# Altium integrated library Analog Devices RF IF Direct Digital Synthesis.IntLib: 76 symbols (part 1 of 9)
Pins are listed as number, name and electrical type; pins without a type are passive.

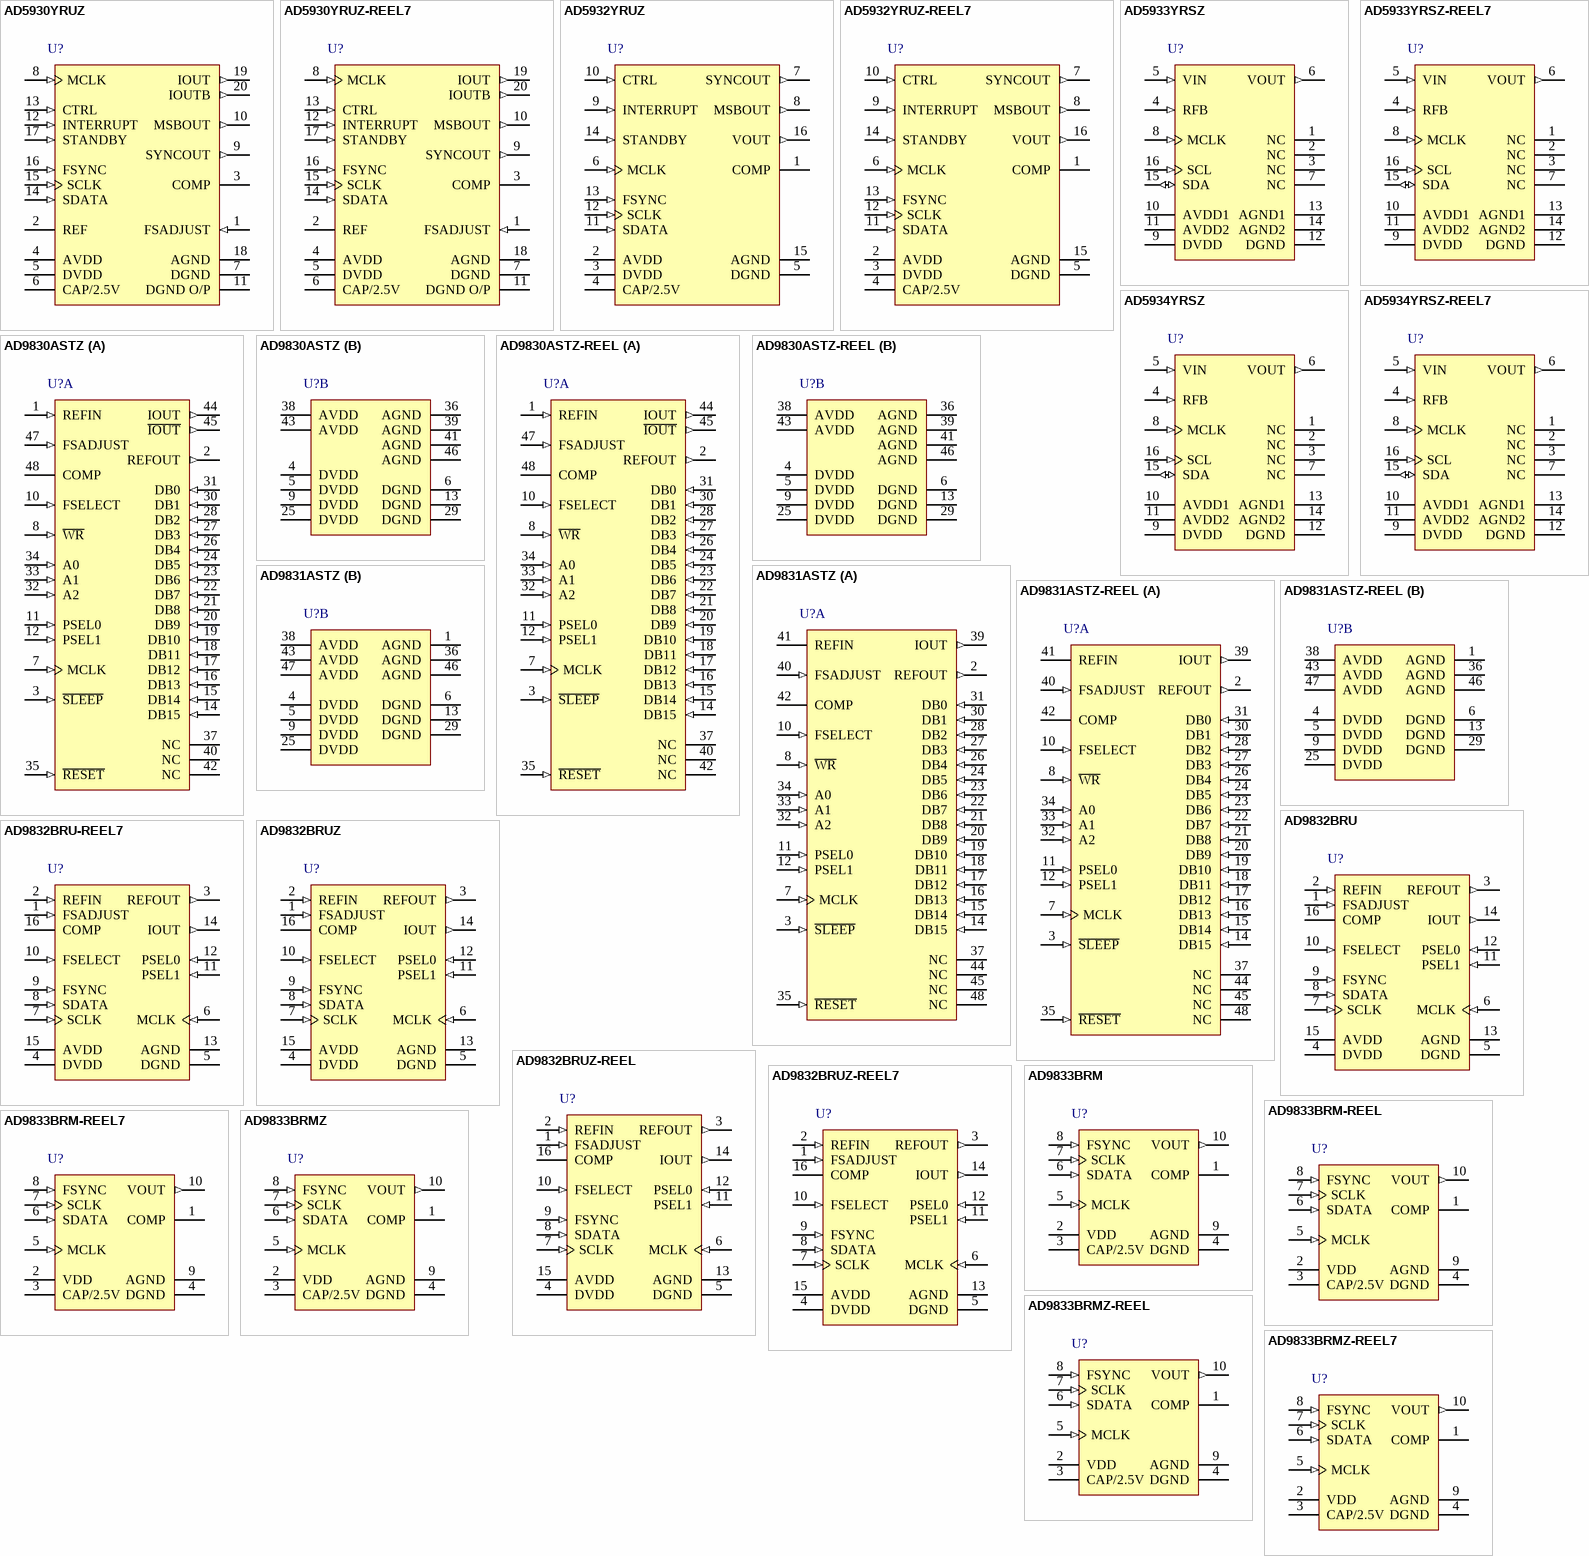
[diagram p0: symbols AD5930YRUZ to AD9833BRMZ-REEL7]

## AD5930YRUZ
designator U?
Programmable Frequency Sweep and Output Burst Waveform Generator, 10-Bit, Serial, RU-20, 75 Tube, Pb-Free; Master fclk: 50MHz; Resolution (Bits): 10bit; Tuning Word Width (bits): 24bit; REFCLK Multiplier: No; Compliance Range (V): 800mV; FS Iout (mA nom): 3.1mA; I Supply total (max): 8mA; DatasheetVersion: Rev. 0; PackageVersion: 2000; PackageReference: RU-20; PackageDescription: 20-Lead Thin Shrink Small Outline Package [TSSOP]; I/O Interface: Serial; Code_JEDEC: MO-153AC; ComponentLink1Description: Manufacturer URL; ComponentLink1URL: www.analog.com; ComponentLink2Description: Datasheet; ComponentLink2URL: http://www.analog.com/static/imported-files/data_sheets/AD5930.pdf; ComponentLink3Description: Package Specification; ComponentLink3URL: http://www.analog.com/static/imported-files/packages/364515793657813558433715854054607941441RU20.pdf
footprint ADI-RU-20_N (TSOP, 20-Leads, Body 6.5x4.4mm, Pitch 0.65mm, IPC Medium Density)
footprint ADI-RU-20_L (TSOP, 20-Leads, Body 6.5x4.4mm, Pitch 0.65mm, IPC High Density)
footprint ADI-RU-20_M (TSOP, 20-Leads, Body 6.5x4.4mm, Pitch 0.65mm, IPC Low Density)
pins: 1 FSADJUST (in) "Full-Scale Adjust Control. A resistor (RSET) must be connected externally between this pin and AGND. This determines the magnitude of the full-scale DAC current. [see datasheet]", 2 REF (power) "Voltage Reference. This pin can be an input or an output. The AD5930 has an internal 1.18 V reference, which  is made available at this pin. [see datasheet]", 3 COMP "DAC Bias Pin. This pin is used for decoupling the DAC bias voltage to AVDD.", 4 AVDD (power) "Positive Power Supply for the Analog Section. AVDD can have a value from +2.3 V to +5.5 V. A 0.1 uF decoupling capacitor should be connected between AVDD and AGND.", 5 DVDD (power) "Positive Power Supply for the Digital Section. DVDD can have a value from +2.3 V to +5.5 V. A 0.1 uF decoupling capacitor should be connected between DVDD and DGND.", 6 CAP/2.5V (power) "Digital Circuitry. Operates from a 2.5 V power supply. This 2.5 V is generated from DVDD using an on-boardregulator. The regulator requires a decoupling capacitor of typically 100 nF, which is connected from CAP/2.5V  to DGND. [see datasheet]", 7 DGND (power) "Ground for all Digital Circuitry. This excludes digital output buffers.", 8 MCLK (in) "Digital Clock Input. DDS output frequencies are expressed as a binary fraction of the frequency of MCLK.  The output frequency accuracy and phase noise are determined by this clock.", 9 SYNCOUT (out) "Digital Output for Sweep Status Information. User selectable for end of sweep (EOS) or frequency increments through the control register (SYNCOP bit). [see datasheet]", 10 MSBOUT (out) "Digital Output. The inverted MSB of the DAC data is available at this pin. This output pin must be enabled bysetting bit MSBOUTEN in the control register to 1.", 11 DGND O/P (power) "Separate DGND Connection for Digital Output Buffers. Connect to DGND", 12 INTERRUPT (in) "Digital Input. This pins acts as an interrupt during a frequency sweep. A low to high transition is sampled by the internal MCLK, which resets internal state machines. [see datasheet]", 13 CTRL (in) "Digital Input. Triple function pin for initialization, start, and external frequency increments. A low-to-high transition,sampled by the internal MCLK, is used to initialize and start internal state machines, which then execute the preprogrammed frequenc", 14 SDATA (in) "Serial Data Input. The 16-bit serial data-word is applied to this input with the register address first followed by the MSB to LSB of the data.", 15 SCLK (in) "Serial Clock Input. Data is clocked into the AD5930 on each falling SCLK edge.", 16 FSYNC (in) "Active Low Control Input.", 17 STANDBY (in) "Active High Digital Input. When this pin is high, the internal MCLK is disabled, and the reference DAC and regulator are powered down. [see datasheet]", 18 AGND (power) "Ground for all Analog Circuitry", 19 IOUT (out) "Current Output. This is a high impedance current source output. A load resistor of nominally 200 ? should be connected between IOUT and AGND. [see datasheet]", 20 IOUTB (out) "Current Output. IOUTB is the compliment of IOUT. This pin should preferably be tied through an external load resistor of 200 ? to AGND, but can be tied directly to AGND. [see datasheet]"

## AD5930YRUZ-REEL7
designator U?
Programmable Frequency Sweep and Output Burst Waveform Generator, 10-Bit, Serial, RU-20, 1000 Reel, Pb-Free; Master fclk: 50MHz; Resolution (Bits): 10bit; Tuning Word Width (bits): 24bit; REFCLK Multiplier: No; Compliance Range (V): 800mV; FS Iout (mA nom): 3.1mA; I Supply total (max): 8mA; DatasheetVersion: Rev. 0; PackageVersion: 2000; PackageReference: RU-20; PackageDescription: 20-Lead Thin Shrink Small Outline Package [TSSOP]; I/O Interface: Serial; Code_JEDEC: MO-153AC; ComponentLink1Description: Manufacturer URL; ComponentLink1URL: www.analog.com; ComponentLink2Description: Datasheet; ComponentLink2URL: http://www.analog.com/static/imported-files/data_sheets/AD5930.pdf; ComponentLink3Description: Package Specification; ComponentLink3URL: http://www.analog.com/static/imported-files/packages/364515793657813558433715854054607941441RU20.pdf
footprint ADI-RU-20_N (TSOP, 20-Leads, Body 6.5x4.4mm, Pitch 0.65mm, IPC Medium Density)
footprint ADI-RU-20_L (TSOP, 20-Leads, Body 6.5x4.4mm, Pitch 0.65mm, IPC High Density)
footprint ADI-RU-20_M (TSOP, 20-Leads, Body 6.5x4.4mm, Pitch 0.65mm, IPC Low Density)
pins: 1 FSADJUST (in) "Full-Scale Adjust Control. A resistor (RSET) must be connected externally between this pin and AGND. This determines the magnitude of the full-scale DAC current. [see datasheet]", 2 REF (power) "Voltage Reference. This pin can be an input or an output. The AD5930 has an internal 1.18 V reference, which  is made available at this pin. [see datasheet]", 3 COMP "DAC Bias Pin. This pin is used for decoupling the DAC bias voltage to AVDD.", 4 AVDD (power) "Positive Power Supply for the Analog Section. AVDD can have a value from +2.3 V to +5.5 V. A 0.1 uF decoupling capacitor should be connected between AVDD and AGND.", 5 DVDD (power) "Positive Power Supply for the Digital Section. DVDD can have a value from +2.3 V to +5.5 V. A 0.1 uF decoupling capacitor should be connected between DVDD and DGND.", 6 CAP/2.5V (power) "Digital Circuitry. Operates from a 2.5 V power supply. This 2.5 V is generated from DVDD using an on-boardregulator. The regulator requires a decoupling capacitor of typically 100 nF, which is connected from CAP/2.5V  to DGND. [see datasheet]", 7 DGND (power) "Ground for all Digital Circuitry. This excludes digital output buffers.", 8 MCLK (in) "Digital Clock Input. DDS output frequencies are expressed as a binary fraction of the frequency of MCLK.  The output frequency accuracy and phase noise are determined by this clock.", 9 SYNCOUT (out) "Digital Output for Sweep Status Information. User selectable for end of sweep (EOS) or frequency increments through the control register (SYNCOP bit). [see datasheet]", 10 MSBOUT (out) "Digital Output. The inverted MSB of the DAC data is available at this pin. This output pin must be enabled bysetting bit MSBOUTEN in the control register to 1.", 11 DGND O/P (power) "Separate DGND Connection for Digital Output Buffers. Connect to DGND", 12 INTERRUPT (in) "Digital Input. This pins acts as an interrupt during a frequency sweep. A low to high transition is sampled by the internal MCLK, which resets internal state machines. [see datasheet]", 13 CTRL (in) "Digital Input. Triple function pin for initialization, start, and external frequency increments. A low-to-high transition,sampled by the internal MCLK, is used to initialize and start internal state machines, which then execute the preprogrammed frequenc", 14 SDATA (in) "Serial Data Input. The 16-bit serial data-word is applied to this input with the register address first followed by the MSB to LSB of the data.", 15 SCLK (in) "Serial Clock Input. Data is clocked into the AD5930 on each falling SCLK edge.", 16 FSYNC (in) "Active Low Control Input.", 17 STANDBY (in) "Active High Digital Input. When this pin is high, the internal MCLK is disabled, and the reference DAC and regulator are powered down. [see datasheet]", 18 AGND (power) "Ground for all Analog Circuitry", 19 IOUT (out) "Current Output. This is a high impedance current source output. A load resistor of nominally 200 ? should be connected between IOUT and AGND. [see datasheet]", 20 IOUTB (out) "Current Output. IOUTB is the compliment of IOUT. This pin should preferably be tied through an external load resistor of 200 ? to AGND, but can be tied directly to AGND. [see datasheet]"

## AD5932YRUZ
designator U?
Programmable Frequency Scan Waveform Generator, 10-Bit, Serial, RU-16, 96 Tube, Pb-Free; Master fclk: 50MHz; Resolution (Bits): 10bit; Tuning Word Width (bits): 24bit; REFCLK Multiplier: Yes; I Supply total (max): 8mA; DatasheetVersion: Rev. 0; PackageVersion: Nov-2002; PackageReference: RU-16; PackageDescription: 16-Lead Thin Shrink Small Outline Package [TSSOP]; I/O Interface: Serial; Code_JEDEC: MO-153AB; ComponentLink1Description: Manufacturer URL; ComponentLink1URL: www.analog.com; ComponentLink2Description: Datasheet; ComponentLink2URL: http://www.analog.com/static/imported-files/data_sheets/AD5932.pdf; ComponentLink3Description: Package Specification; ComponentLink3URL: http://www.analog.com/static/imported-files/packages/36244347913743854010197452789RU16.pdf
footprint ADI-RU-16_N (TSOP, 16-Leads, Body 5x4.4mm, Pitch 0.65mm, IPC Medium Density)
footprint ADI-RU-16_L (TSOP, 16-Leads, Body 5x4.4mm, Pitch 0.65mm, IPC High Density)
footprint ADI-RU-16_M (TSOP, 16-Leads, Body 5x4.4mm, Pitch 0.65mm, IPC Low Density)
pins: 1 COMP "DAC Bias Pin. This pin is used for decoupling the DAC bias voltage to AVDD.", 2 AVDD (power) "Positive Power Supply for the Analog Section. AVDD can have a value from 2.3 V to 5.5 V. A 0.1 uF decoupling capacitor should be connected between AVDD and AGND.", 3 DVDD (power) "Positive Power Supply for the Digital Section. DVDD can have a value from 2.3 V to 5.5 V. A 0.1 uF decoupling capacitor should be connected between DVDD and DGND.", 4 CAP/2.5V (power) "Digital Circuitry. Operates from a 2.5 V power supply. This 2.5 V is generated from DVDD using an on-board regulator. The regulator requires a decoupling capacitor of typically 100 nF, which is connected fromCAP/2.5V  to DGND. [see datasheet]", 5 DGND (power) "Ground for All Digital Circuitry.", 6 MCLK (in) "Digital Clock Input. DDS output frequencies are expressed as a binary fraction of the frequency of MCLK.  The output frequency accuracy and phase noise are determined by this clock.", 7 SYNCOUT (out) "Digital Output for Scan Status Information. User-selectable for end of scan (EOS) or frequency increments through the control register (SYNCOP bit). [see datasheet]", 8 MSBOUT (out) "Digital Output. The inverted MSB of the DAC data is available at this pin. This output pin must be enabled by setting the MSBOUTEN bit in the control register to 1.", 9 INTERRUPT (in) "Digital Input. This pin acts as an interrupt during a frequency scan. A low-to-high transition is sampled by the internal MCLK, which resets internal state machines. [see datasheet]", 10 CTRL (in) "Digital Input. Triple function pin for initialization, start, and external frequency increments. A low-to-high transition, sampled by the internal MCLK, is used to initialize and start internal state machines, which then execute the preprogrammed frequen", 11 SDATA (in) "Serial Data Input. The 16-bit serial data-word is applied to this input with the register address first, followed by  the MSB to LSBs of the data.", 12 SCLK (in) "Serial Clock Input. Data is clocked into the AD5932 on each falling SCLK edge.", 13 FSYNC (in) "Active Low Control Input.", 14 STANDBY (in) "Active High Digital Input. When this pin is high, the internal MCLK is disabled, and the reference DAC and regulator are powered down. [see datasheet]", 15 AGND (power) "Ground for All Analog Circuitry.", 16 VOUT (out) "Voltage Output. The analog outputs from the AD5932 are available here. An external resistive load is not required, because the device has a 200  ohm resistor on board. [see datasheet]"

## AD5932YRUZ-REEL7
designator U?
Programmable Frequency Scan Waveform Generator, 10-Bit, Serial, RU-16, 1000 Reel, Pb-Free; Master fclk: 50MHz; Resolution (Bits): 10bit; Tuning Word Width (bits): 24bit; REFCLK Multiplier: Yes; I Supply total (max): 8mA; DatasheetVersion: Rev. 0; PackageVersion: Nov-2002; PackageReference: RU-16; PackageDescription: 16-Lead Thin Shrink Small Outline Package [TSSOP]; I/O Interface: Serial; Code_JEDEC: MO-153AB; ComponentLink1Description: Manufacturer URL; ComponentLink1URL: www.analog.com; ComponentLink2Description: Datasheet; ComponentLink2URL: http://www.analog.com/static/imported-files/data_sheets/AD5932.pdf; ComponentLink3Description: Package Specification; ComponentLink3URL: http://www.analog.com/static/imported-files/packages/36244347913743854010197452789RU16.pdf
footprint ADI-RU-16_N (TSOP, 16-Leads, Body 5x4.4mm, Pitch 0.65mm, IPC Medium Density)
footprint ADI-RU-16_L (TSOP, 16-Leads, Body 5x4.4mm, Pitch 0.65mm, IPC High Density)
footprint ADI-RU-16_M (TSOP, 16-Leads, Body 5x4.4mm, Pitch 0.65mm, IPC Low Density)
pins: 1 COMP "DAC Bias Pin. This pin is used for decoupling the DAC bias voltage to AVDD.", 2 AVDD (power) "Positive Power Supply for the Analog Section. AVDD can have a value from 2.3 V to 5.5 V. A 0.1 uF decoupling capacitor should be connected between AVDD and AGND.", 3 DVDD (power) "Positive Power Supply for the Digital Section. DVDD can have a value from 2.3 V to 5.5 V. A 0.1 uF decoupling capacitor should be connected between DVDD and DGND.", 4 CAP/2.5V (power) "Digital Circuitry. Operates from a 2.5 V power supply. This 2.5 V is generated from DVDD using an on-board regulator. The regulator requires a decoupling capacitor of typically 100 nF, which is connected fromCAP/2.5V  to DGND. [see datasheet]", 5 DGND (power) "Ground for All Digital Circuitry.", 6 MCLK (in) "Digital Clock Input. DDS output frequencies are expressed as a binary fraction of the frequency of MCLK.  The output frequency accuracy and phase noise are determined by this clock.", 7 SYNCOUT (out) "Digital Output for Scan Status Information. User-selectable for end of scan (EOS) or frequency increments through the control register (SYNCOP bit). [see datasheet]", 8 MSBOUT (out) "Digital Output. The inverted MSB of the DAC data is available at this pin. This output pin must be enabled by setting the MSBOUTEN bit in the control register to 1.", 9 INTERRUPT (in) "Digital Input. This pin acts as an interrupt during a frequency scan. A low-to-high transition is sampled by the internal MCLK, which resets internal state machines. [see datasheet]", 10 CTRL (in) "Digital Input. Triple function pin for initialization, start, and external frequency increments. A low-to-high transition, sampled by the internal MCLK, is used to initialize and start internal state machines, which then execute the preprogrammed frequen", 11 SDATA (in) "Serial Data Input. The 16-bit serial data-word is applied to this input with the register address first, followed by  the MSB to LSBs of the data.", 12 SCLK (in) "Serial Clock Input. Data is clocked into the AD5932 on each falling SCLK edge.", 13 FSYNC (in) "Active Low Control Input.", 14 STANDBY (in) "Active High Digital Input. When this pin is high, the internal MCLK is disabled, and the reference DAC and regulator are powered down. [see datasheet]", 15 AGND (power) "Ground for All Analog Circuitry.", 16 VOUT (out) "Voltage Output. The analog outputs from the AD5932 are available here. An external resistive load is not required, because the device has a 200  ohm resistor on board. [see datasheet]"

## AD5933YRSZ
designator U?
1 MSPS, 12-Bit Impedance Converter, Network Analyzer, Serial, RS-16, 77 Tube, Pb-Free; Master fclk: 16.776MHz; Resolution (Bits): 12bit; Tuning Word Width (bits): 27bit; I Supply total (max): 15mA; DatasheetVersion: Rev. D; PackageVersion: 3/17/2005; PackageReference: RS-16; PackageDescription: 16-Lead Shrink Small Outline Package [SSOP]; I/O Interface: Serial; Code_JEDEC: MO-150-AC; ComponentLink1Description: Manufacturer URL; ComponentLink1URL: www.analog.com; ComponentLink2Description: Datasheet; ComponentLink2URL: http://www.analog.com/static/imported-files/data_sheets/AD5933.pdf; ComponentLink3Description: Package Specification; ComponentLink3URL: http://www.analog.com/static/imported-files/packages/31572257652246RS_16.pdf
footprint ADI-RS-16_N (SOP, 16-Leads, Body 6.2x5.3mm, Pitch 0.65mm, IPC Medium Density)
footprint ADI-RS-16_L (SOP, 16-Leads, Body 6.2x5.3mm, Pitch 0.65mm, IPC High Density)
footprint ADI-RS-16_M (SOP, 16-Leads, Body 6.2x5.3mm, Pitch 0.65mm, IPC Low Density)
pins: 1 NC "No Connect.", 2 NC "No Connect.", 3 NC "No Connect.", 4 RFB (in) "External Feedback Resistor. Connected from Pin 4 to Pin 5 and used to set the gain of the current-to-voltage amplifier on the receive side.", 5 VIN (in) "Input to Receive Transimpedance Amplifier. Presents a virtual earth voltage of VDD/2.", 6 VOUT (out) "Excitation Voltage Signal Output.", 7 NC "No Connect.", 8 MCLK (in) "The master clock for the system is supplied by the user.", 9 DVDD (power) "Digital Supply Voltage.", 10 AVDD1 (power) "Analog Supply Voltage 1.", 11 AVDD2 (power) "Analog Supply Voltage 2.", 12 DGND (power) "Digital Ground.", 13 AGND1 (power) "Analog Ground 1.", 14 AGND2 (power) "Analog Ground 2.", 15 SDA (io) "I2C Data Input. Open-drain pins requiring 10 k ohm pull-up resistors to VDD.", 16 SCL (in) "I2C Clock Input. Open-drain pins requiring 10 k ohm pull-up resistors to VDD."

## AD5933YRSZ-REEL7
designator U?
1 MSPS, 12-Bit Impedance Converter, Network Analyzer, Serial, RS-16, 500 Reel, Pb-Free; Master fclk: 16.776MHz; Resolution (Bits): 12bit; Tuning Word Width (bits): 27bit; I Supply total (max): 15mA; DatasheetVersion: Rev. D; PackageVersion: 3/17/2005; PackageReference: RS-16; PackageDescription: 16-Lead Shrink Small Outline Package [SSOP]; I/O Interface: Serial; Code_JEDEC: MO-150-AC; ComponentLink1Description: Manufacturer URL; ComponentLink1URL: www.analog.com; ComponentLink2Description: Datasheet; ComponentLink2URL: http://www.analog.com/static/imported-files/data_sheets/AD5933.pdf; ComponentLink3Description: Package Specification; ComponentLink3URL: http://www.analog.com/static/imported-files/packages/31572257652246RS_16.pdf
footprint ADI-RS-16_N (SOP, 16-Leads, Body 6.2x5.3mm, Pitch 0.65mm, IPC Medium Density)
footprint ADI-RS-16_L (SOP, 16-Leads, Body 6.2x5.3mm, Pitch 0.65mm, IPC High Density)
footprint ADI-RS-16_M (SOP, 16-Leads, Body 6.2x5.3mm, Pitch 0.65mm, IPC Low Density)
pins: 1 NC "No Connect.", 2 NC "No Connect.", 3 NC "No Connect.", 4 RFB (in) "External Feedback Resistor. Connected from Pin 4 to Pin 5 and used to set the gain of the current-to-voltage amplifier on the receive side.", 5 VIN (in) "Input to Receive Transimpedance Amplifier. Presents a virtual earth voltage of VDD/2.", 6 VOUT (out) "Excitation Voltage Signal Output.", 7 NC "No Connect.", 8 MCLK (in) "The master clock for the system is supplied by the user.", 9 DVDD (power) "Digital Supply Voltage.", 10 AVDD1 (power) "Analog Supply Voltage 1.", 11 AVDD2 (power) "Analog Supply Voltage 2.", 12 DGND (power) "Digital Ground.", 13 AGND1 (power) "Analog Ground 1.", 14 AGND2 (power) "Analog Ground 2.", 15 SDA (io) "I2C Data Input. Open-drain pins requiring 10 k ohm pull-up resistors to VDD.", 16 SCL (in) "I2C Clock Input. Open-drain pins requiring 10 k ohm pull-up resistors to VDD."

## AD5934YRSZ
designator U?
250 kSPS, 12-Bit Impedance Converter, Network Analyzer, Serial, RS-16, 77 Tube, Pb-Free; Master fclk: 16.776MHz; Resolution (Bits): 12bit; Tuning Word Width (bits): 27bit; I Supply total (max): 1mA; DatasheetVersion: Rev. A; PackageVersion: 3/17/2005; PackageReference: RS-16; PackageDescription: 16-Lead Shrink Small Outline Package [SSOP]; I/O Interface: Serial; Code_JEDEC: MO-150-AC; ComponentLink1Description: Manufacturer URL; ComponentLink1URL: www.analog.com; ComponentLink2Description: Datasheet; ComponentLink2URL: http://www.analog.com/static/imported-files/data_sheets/AD5934.pdf; ComponentLink3Description: Package Specification; ComponentLink3URL: http://www.analog.com/static/imported-files/packages/31572257652246RS_16.pdf
footprint ADI-RS-16_N (SOP, 16-Leads, Body 6.2x5.3mm, Pitch 0.65mm, IPC Medium Density)
footprint ADI-RS-16_L (SOP, 16-Leads, Body 6.2x5.3mm, Pitch 0.65mm, IPC High Density)
footprint ADI-RS-16_M (SOP, 16-Leads, Body 6.2x5.3mm, Pitch 0.65mm, IPC Low Density)
pins: 1 NC "No Connect.", 2 NC "No Connect.", 3 NC "No Connect.", 4 RFB (in) "External Feedback Resistor. Connect from Pin 4 to Pin 5. This pin sets the gain of the current-to-voltage amplifier on the receive side.", 5 VIN (in) "Input to Receive Transimpedance Amplifier. VIN presents a virtual earth voltage of VDD/2.", 6 VOUT (out) "Excitation Voltage Signal Output.", 7 NC "No Connect.", 8 MCLK (in) "The master clock for the system is supplied by the user.", 9 DVDD (power) "Digital Supply Voltage.", 10 AVDD1 (power) "Analog Supply Voltage 1.", 11 AVDD2 (power) "Analog Supply Voltage 2.", 12 DGND (power) "Digital Ground.", 13 AGND1 (power) "Analog Ground 1.", 14 AGND2 (power) "Analog Ground 2.", 15 SDA (io) "I2C Data Input.", 16 SCL (in) "I2C Clock Input."

## AD5934YRSZ-REEL7
designator U?
250 kSPS, 12-Bit Impedance Converter, Network Analyzer, Serial, RS-16, 500 Reel, Pb-Free; Master fclk: 16.776MHz; Resolution (Bits): 12bit; Tuning Word Width (bits): 27bit; I Supply total (max): 1mA; DatasheetVersion: Rev. A; PackageVersion: 3/17/2005; PackageReference: RS-16; PackageDescription: 16-Lead Shrink Small Outline Package [SSOP]; I/O Interface: Serial; Code_JEDEC: MO-150-AC; ComponentLink1Description: Manufacturer URL; ComponentLink1URL: www.analog.com; ComponentLink2Description: Datasheet; ComponentLink2URL: http://www.analog.com/static/imported-files/data_sheets/AD5934.pdf; ComponentLink3Description: Package Specification; ComponentLink3URL: http://www.analog.com/static/imported-files/packages/31572257652246RS_16.pdf
footprint ADI-RS-16_N (SOP, 16-Leads, Body 6.2x5.3mm, Pitch 0.65mm, IPC Medium Density)
footprint ADI-RS-16_L (SOP, 16-Leads, Body 6.2x5.3mm, Pitch 0.65mm, IPC High Density)
footprint ADI-RS-16_M (SOP, 16-Leads, Body 6.2x5.3mm, Pitch 0.65mm, IPC Low Density)
pins: 1 NC "No Connect.", 2 NC "No Connect.", 3 NC "No Connect.", 4 RFB (in) "External Feedback Resistor. Connect from Pin 4 to Pin 5. This pin sets the gain of the current-to-voltage amplifier on the receive side.", 5 VIN (in) "Input to Receive Transimpedance Amplifier. VIN presents a virtual earth voltage of VDD/2.", 6 VOUT (out) "Excitation Voltage Signal Output.", 7 NC "No Connect.", 8 MCLK (in) "The master clock for the system is supplied by the user.", 9 DVDD (power) "Digital Supply Voltage.", 10 AVDD1 (power) "Analog Supply Voltage 1.", 11 AVDD2 (power) "Analog Supply Voltage 2.", 12 DGND (power) "Digital Ground.", 13 AGND1 (power) "Analog Ground 1.", 14 AGND2 (power) "Analog Ground 2.", 15 SDA (io) "I2C Data Input.", 16 SCL (in) "I2C Clock Input."

## AD9830ASTZ
designator U?
Direct DIgital Synthesizer,Waveform Generator, 10-Bit, Parallel, ST-48, 250 Tray, Pb-Free; Master fclk: 50MHz; Resolution (Bits): 10bit; Tuning Word Width (bits): 32bit; REFCLK Multiplier: No; Compliance Range (V): 1V; FS Iout (mA nom): 20mA; I Supply total (max): 60mA; DatasheetVersion: Rev. B; PackageVersion: 051706-A; PackageReference: ST-48; PackageDescription: 48-Lead Low Profile Quad Flat Package [LQFP]; I/O Interface: Parallel; Code_JEDEC: MS-026-BBC; ComponentLink1Description: Manufacturer URL; ComponentLink1URL: www.analog.com; ComponentLink2Description: Datasheet; ComponentLink2URL: http://www.analog.com/static/imported-files/data_sheets/AD9830.pdf; ComponentLink3Description: Package Specification; ComponentLink3URL: http://www.analog.com/static/imported-files/packages/PKG_PDF/LQFP%28ST%29/ST_48.pdf
footprint ADI-ST-48_N (Thin QFP, 48-Leads, Body 7x7mm, Pitch 0.5mm, IPC Medium Density)
footprint ADI-ST-48_L (Thin QFP, 48-Leads, Body 7x7mm, Pitch 0.5mm, IPC High Density)
footprint ADI-ST-48_M (Thin QFP, 48-Leads, Body 7x7mm, Pitch 0.5mm, IPC Low Density)
part A pins: 1 REFIN (in) "Voltage Reference Input. The AD9830 can be used with either the on-board reference, which is available from pin REFOUT, or an external reference. [see datasheet]", 2 REFOUT (out) "Voltage Reference Output. The AD9830 has an on-board reference of value 1.21 V nominal.  The reference is made available on the REFOUT pin. [see datasheet]", 3 ~{SLEEP} (in) "Low Power Control, active low digital input.  S\L\E\E\P\ puts the AD9830 into a low power mode.  Internal clocks are disabled and the DAC’s current sources and REFOUT are turned off. [see datasheet]", 7 MCLK (in) "Digital Clock Input. DDS output frequencies are expressed as a binary fraction of the frequency of MCLK.  The output frequency accuracy and phase noise are determined by this clock", 8 ~{WR} (in) "Write, Edge-Triggered Digital Input.  The W\R\ pin is used when writing data to the AD9830.  The data is loaded into the AD9830 on the rising edge of the  WR pulse. [see datasheet]", 10 FSELECT (in) "Frequency Select Input.  FSELECT controls which frequency register, FREQ0 or FREQ1, is used in the phase accumulator.  FSELECT is sampled on the rising MCLK edge. [see datasheet]", 11 PSEL0 (in) "Phase Select Input. The AD9830 has four phase registers.  These registers can be used to alter the value being input to the SIN ROM. [see datasheet]", 12 PSEL1 (in) "Phase Select Input. The AD9830 has four phase registers.  These registers can be used to alter the value being input to the SIN ROM. [see datasheet]", 14 DB15 (in) "Data Bus, Digital Inputs for destination registers", 15 DB14 (in) "Data Bus, Digital Inputs for destination registers", 16 DB13 (in) "Data Bus, Digital Inputs for destination registers", 17 DB12 (in) "Data Bus, Digital Inputs for destination registers", 18 DB11 (in) "Data Bus, Digital Inputs for destination registers", 19 DB10 (in) "Data Bus, Digital Inputs for destination registers", 20 DB9 (in) "Data Bus, Digital Inputs for destination registers", 21 DB8 (in) "Data Bus, Digital Inputs for destination registers", 22 DB7 (in) "Data Bus, Digital Inputs for destination registers", 23 DB6 (in) "Data Bus, Digital Inputs for destination registers", 24 DB5 (in) "Data Bus, Digital Inputs for destination registers", 26 DB4 (in) "Data Bus, Digital Inputs for destination registers", 27 DB3 (in) "Data Bus, Digital Inputs for destination registers", 28 DB2 (in) "Data Bus, Digital Inputs for destination registers", 30 DB1 (in) "Data Bus, Digital Inputs for destination registers", 31 DB0 (in) "Data Bus, Digital Inputs for destination registers", 32 A2 (in) "Address Digital Inputs.  These address bits are used to select the destination register to which the digital data is to be written", 33 A1 (in) "Address Digital Inputs.  These address bits are used to select the destination register to which the digital data is to be written", 34 A0 (in) "Address Digital Inputs.  These address bits are used to select the destination register to which the digital data is to be written", 35 ~{RESET} (in) "Reset, active low digital input. R\E\S\E\T\ resets the phase accumulator to zero which corresponds to an analog output of midscale", 37 NC "No Connect", 40 NC "No Connect", 42 NC "No Connect", 44 IOUT (out) "Current Output. This is a high impedance current source.  A load resistor should be connected between I\O\U\T\ and AGND. [see datasheet]", 45 ~{IOUT} (out) "Current Output. This is a high impedance current source.  A load resistor should be connected between I\O\U\T\ and AGND. [see datasheet]", 47 FSADJUST (in) "Full-Scale Adjust Control.  A resistor (RSET) is connected between this pin and AGND. This determines the magnitude of the full-scale DAC current. [see datasheet]", 48 COMP "Compensation pin.  This is a compensation pin for the internal reference amplifier.  A 10 nF decoupling ceramic capacitor should be connected between COMP and AVDD"
part B pins: 4 DVDD (power) "Positive power supply for the digital section.  A 0.1 uF decoupling capacitor should be connected between DVDD and DGND. DVDD has a value of +5 V +/- 5%", 5 DVDD (power) "Positive power supply for the digital section.  A 0.1 uF decoupling capacitor should be connected between DVDD and DGND. DVDD has a value of +5 V +/- 5%", 6 DGND (power) "Digital Ground", 9 DVDD (power) "Positive power supply for the digital section.  A 0.1 uF decoupling capacitor should be connected between DVDD and DGND. DVDD has a value of +5 V +/- 5%", 13 DGND (power) "Digital Ground", 25 DVDD (power) "Positive power supply for the digital section.  A 0.1 uF decoupling capacitor should be connected between DVDD and DGND. DVDD has a value of +5 V +/- 5%", 29 DGND (power) "Digital Ground", 36 AGND (power) "Analog Ground", 38 AVDD (power) "Positive power supply for the analog section.  A 0.1 uF capacitor should be connected between AVDD and AGND. AVDD has a value of +5 V +/- 5%", 39 AGND (power) "Analog Ground", 41 AGND (power) "Analog Ground", 43 AVDD (power) "Positive power supply for the analog section.  A 0.1 uF capacitor should be connected between AVDD and AGND. AVDD has a value of +5 V +/- 5%", 46 AGND (power) "Analog Ground"

## AD9830ASTZ-REEL
designator U?
Direct DIgital Synthesizer,Waveform Generator, 10-Bit, Parallel, ST-48, 2000 Reel, Pb-Free; Master fclk: 50MHz; Resolution (Bits): 10bit; Tuning Word Width (bits): 32bit; REFCLK Multiplier: No; Compliance Range (V): 1V; FS Iout (mA nom): 20mA; I Supply total (max): 60mA; DatasheetVersion: Rev. B; PackageVersion: 051706-A; PackageReference: ST-48; PackageDescription: 48-Lead Low Profile Quad Flat Package [LQFP]; I/O Interface: Parallel; Code_JEDEC: MS-026-BBC; ComponentLink1Description: Manufacturer URL; ComponentLink1URL: www.analog.com; ComponentLink2Description: Datasheet; ComponentLink2URL: http://www.analog.com/static/imported-files/data_sheets/AD9830.pdf; ComponentLink3Description: Package Specification; ComponentLink3URL: http://www.analog.com/static/imported-files/packages/PKG_PDF/LQFP%28ST%29/ST_48.pdf
footprint ADI-ST-48_N (Thin QFP, 48-Leads, Body 7x7mm, Pitch 0.5mm, IPC Medium Density)
footprint ADI-ST-48_L (Thin QFP, 48-Leads, Body 7x7mm, Pitch 0.5mm, IPC High Density)
footprint ADI-ST-48_M (Thin QFP, 48-Leads, Body 7x7mm, Pitch 0.5mm, IPC Low Density)
part A pins: 1 REFIN (in) "Voltage Reference Input. The AD9830 can be used with either the on-board reference, which is available from pin REFOUT, or an external reference. [see datasheet]", 2 REFOUT (out) "Voltage Reference Output. The AD9830 has an on-board reference of value 1.21 V nominal.  The reference is made available on the REFOUT pin. [see datasheet]", 3 ~{SLEEP} (in) "Low Power Control, active low digital input.  S\L\E\E\P\ puts the AD9830 into a low power mode.  Internal clocks are disabled and the DAC’s current sources and REFOUT are turned off. [see datasheet]", 7 MCLK (in) "Digital Clock Input. DDS output frequencies are expressed as a binary fraction of the frequency of MCLK.  The output frequency accuracy and phase noise are determined by this clock", 8 ~{WR} (in) "Write, Edge-Triggered Digital Input.  The W\R\ pin is used when writing data to the AD9830.  The data is loaded into the AD9830 on the rising edge of the  WR pulse. [see datasheet]", 10 FSELECT (in) "Frequency Select Input.  FSELECT controls which frequency register, FREQ0 or FREQ1, is used in the phase accumulator.  FSELECT is sampled on the rising MCLK edge. [see datasheet]", 11 PSEL0 (in) "Phase Select Input. The AD9830 has four phase registers.  These registers can be used to alter the value being input to the SIN ROM. [see datasheet]", 12 PSEL1 (in) "Phase Select Input. The AD9830 has four phase registers.  These registers can be used to alter the value being input to the SIN ROM. [see datasheet]", 14 DB15 (in) "Data Bus, Digital Inputs for destination registers", 15 DB14 (in) "Data Bus, Digital Inputs for destination registers", 16 DB13 (in) "Data Bus, Digital Inputs for destination registers", 17 DB12 (in) "Data Bus, Digital Inputs for destination registers", 18 DB11 (in) "Data Bus, Digital Inputs for destination registers", 19 DB10 (in) "Data Bus, Digital Inputs for destination registers", 20 DB9 (in) "Data Bus, Digital Inputs for destination registers", 21 DB8 (in) "Data Bus, Digital Inputs for destination registers", 22 DB7 (in) "Data Bus, Digital Inputs for destination registers", 23 DB6 (in) "Data Bus, Digital Inputs for destination registers", 24 DB5 (in) "Data Bus, Digital Inputs for destination registers", 26 DB4 (in) "Data Bus, Digital Inputs for destination registers", 27 DB3 (in) "Data Bus, Digital Inputs for destination registers", 28 DB2 (in) "Data Bus, Digital Inputs for destination registers", 30 DB1 (in) "Data Bus, Digital Inputs for destination registers", 31 DB0 (in) "Data Bus, Digital Inputs for destination registers", 32 A2 (in) "Address Digital Inputs.  These address bits are used to select the destination register to which the digital data is to be written", 33 A1 (in) "Address Digital Inputs.  These address bits are used to select the destination register to which the digital data is to be written", 34 A0 (in) "Address Digital Inputs.  These address bits are used to select the destination register to which the digital data is to be written", 35 ~{RESET} (in) "Reset, active low digital input. R\E\S\E\T\ resets the phase accumulator to zero which corresponds to an analog output of midscale", 37 NC "No Connect", 40 NC "No Connect", 42 NC "No Connect", 44 IOUT (out) "Current Output. This is a high impedance current source.  A load resistor should be connected between I\O\U\T\ and AGND. [see datasheet]", 45 ~{IOUT} (out) "Current Output. This is a high impedance current source.  A load resistor should be connected between I\O\U\T\ and AGND. [see datasheet]", 47 FSADJUST (in) "Full-Scale Adjust Control.  A resistor (RSET) is connected between this pin and AGND. This determines the magnitude of the full-scale DAC current. [see datasheet]", 48 COMP "Compensation pin.  This is a compensation pin for the internal reference amplifier.  A 10 nF decoupling ceramic capacitor should be connected between COMP and AVDD"
part B pins: 4 DVDD (power) "Positive power supply for the digital section.  A 0.1 uF decoupling capacitor should be connected between DVDD and DGND. DVDD has a value of +5 V +/- 5%", 5 DVDD (power) "Positive power supply for the digital section.  A 0.1 uF decoupling capacitor should be connected between DVDD and DGND. DVDD has a value of +5 V +/- 5%", 6 DGND (power) "Digital Ground", 9 DVDD (power) "Positive power supply for the digital section.  A 0.1 uF decoupling capacitor should be connected between DVDD and DGND. DVDD has a value of +5 V +/- 5%", 13 DGND (power) "Digital Ground", 25 DVDD (power) "Positive power supply for the digital section.  A 0.1 uF decoupling capacitor should be connected between DVDD and DGND. DVDD has a value of +5 V +/- 5%", 29 DGND (power) "Digital Ground", 36 AGND (power) "Analog Ground", 38 AVDD (power) "Positive power supply for the analog section.  A 0.1 uF capacitor should be connected between AVDD and AGND. AVDD has a value of +5 V +/- 5%", 39 AGND (power) "Analog Ground", 41 AGND (power) "Analog Ground", 43 AVDD (power) "Positive power supply for the analog section.  A 0.1 uF capacitor should be connected between AVDD and AGND. AVDD has a value of +5 V +/- 5%", 46 AGND (power) "Analog Ground"

## AD9831ASTZ
designator U?
Direct DIgital Synthesizer,Waveform Generator, 10-Bit, Parallel, ST-48, 250 Tray, Pb-Free; Master fclk: 25MHz; Resolution (Bits): 10bit; Tuning Word Width (bits): 32bit; REFCLK Multiplier: No; Compliance Range (V): 1.5V; FS Iout (mA nom): 4mA; I Supply total (max): 15mA; DatasheetVersion: Rev. B; PackageVersion: 051706-A; PackageReference: ST-48; PackageDescription: 48-Lead Low Profile Quad Flat Package [LQFP]; I/O Interface: Parallel; Code_JEDEC: MS-026-BBC; ComponentLink1Description: Manufacturer URL; ComponentLink1URL: www.analog.com; ComponentLink2Description: Datasheet; ComponentLink2URL: http://www.analog.com/static/imported-files/data_sheets/AD9831.pdf; ComponentLink3Description: Package Specification; ComponentLink3URL: http://www.analog.com/static/imported-files/packages/PKG_PDF/LQFP%28ST%29/ST_48.pdf
footprint ADI-ST-48_N (Thin QFP, 48-Leads, Body 7x7mm, Pitch 0.5mm, IPC Medium Density)
footprint ADI-ST-48_L (Thin QFP, 48-Leads, Body 7x7mm, Pitch 0.5mm, IPC High Density)
footprint ADI-ST-48_M (Thin QFP, 48-Leads, Body 7x7mm, Pitch 0.5mm, IPC Low Density)
part A pins: 2 REFOUT (out) "Voltage Reference Output. The AD9830 has an on-board reference of value 1.21 V nominal.  The reference is made available on the REFOUT pin. [see datasheet]", 3 ~{SLEEP} (in) "Low Power Control, active low digital input.  S\L\E\E\P\ puts the AD9830 into a low power mode.  Internal clocks are disabled and the DAC’s current sources and REFOUT are turned off. [see datasheet]", 7 MCLK (in) "Digital Clock Input. DDS output frequencies are expressed as a binary fraction of the frequency of MCLK.  The output frequency accuracy and phase noise are determined by this clock", 8 ~{WR} (in) "Write, Edge-Triggered Digital Input.  The W\R\ pin is used when writing data to the AD9830.  The data is loaded into the AD9830 on the rising edge of the  WR pulse. [see datasheet]", 10 FSELECT (in) "Frequency Select Input.  FSELECT controls which frequency register, FREQ0 or FREQ1, is used in the phase accumulator.  FSELECT is sampled on the rising MCLK edge. [see datasheet]", 11 PSEL0 (in) "Phase Select Input. The AD9830 has four phase registers.  These registers can be used to alter the value being input to the SIN ROM. [see datasheet]", 12 PSEL1 (in) "Phase Select Input. The AD9830 has four phase registers.  These registers can be used to alter the value being input to the SIN ROM. [see datasheet]", 14 DB15 (in) "Data Bus, Digital Inputs for destination registers", 15 DB14 (in) "Data Bus, Digital Inputs for destination registers", 16 DB13 (in) "Data Bus, Digital Inputs for destination registers", 17 DB12 (in) "Data Bus, Digital Inputs for destination registers", 18 DB11 (in) "Data Bus, Digital Inputs for destination registers", 19 DB10 (in) "Data Bus, Digital Inputs for destination registers", 20 DB9 (in) "Data Bus, Digital Inputs for destination registers", 21 DB8 (in) "Data Bus, Digital Inputs for destination registers", 22 DB7 (in) "Data Bus, Digital Inputs for destination registers", 23 DB6 (in) "Data Bus, Digital Inputs for destination registers", 24 DB5 (in) "Data Bus, Digital Inputs for destination registers", 26 DB4 (in) "Data Bus, Digital Inputs for destination registers", 27 DB3 (in) "Data Bus, Digital Inputs for destination registers", 28 DB2 (in) "Data Bus, Digital Inputs for destination registers", 30 DB1 (in) "Data Bus, Digital Inputs for destination registers", 31 DB0 (in) "Data Bus, Digital Inputs for destination registers", 32 A2 (in) "Address Digital Inputs.  These address bits are used to select the destination register to which the digital data is to be written", 33 A1 (in) "Address Digital Inputs.  These address bits are used to select the destination register to which the digital data is to be written", 34 A0 (in) "Address Digital Inputs.  These address bits are used to select the destination register to which the digital data is to be written", 35 ~{RESET} (in) "Reset, active low digital input. R\E\S\E\T\ resets the phase accumulator to zero which corresponds to an analog output of midscale", 37 NC "No Connect", 39 IOUT (out) "Current Output. This is a high impedance current source.  A load resistor should be connected between I\O\U\T\ and AGND. [see datasheet]", 40 FSADJUST (in) "Full-Scale Adjust Control.  A resistor (RSET) is connected between this pin and AGND. This determines the magnitude of the full-scale DAC current. [see datasheet]", 41 REFIN (power) "Voltage Reference Input. The AD9830 can be used with either the on-board reference, which is available from pin REFOUT, or an external reference. [see datasheet]", 42 COMP "Compensation pin.  This is a compensation pin for the internal reference amplifier.  A 10 nF decoupling ceramic capacitor should be connected between COMP and AVDD", 44 NC "No Connect", 45 NC "No Connect", 48 NC "No Connect"
part B pins: 1 AGND (power) "Analog Ground", 4 DVDD (power) "Positive power supply for the digital section.  A 0.1 uF decoupling capacitor should be connected between DVDD and DGND. DVDD has a value of +5 V +/- 5%", 5 DVDD (power) "Positive power supply for the digital section.  A 0.1 uF decoupling capacitor should be connected between DVDD and DGND. DVDD has a value of +5 V +/- 5%", 6 DGND (power) "Digital Ground", 9 DVDD (power) "Positive power supply for the digital section.  A 0.1 uF decoupling capacitor should be connected between DVDD and DGND. DVDD has a value of +5 V +/- 5%", 13 DGND (power) "Digital Ground", 25 DVDD (power) "Positive power supply for the digital section.  A 0.1 uF decoupling capacitor should be connected between DVDD and DGND. DVDD has a value of +5 V +/- 5%", 29 DGND (power) "Digital Ground", 36 AGND (power) "Analog Ground", 38 AVDD (power) "Positive power supply for the analog section.  A 0.1 uF capacitor should be connected between AVDD and AGND. AVDD has a value of +5 V +/- 5%", 43 AVDD (power) "Positive power supply for the analog section.  A 0.1 uF capacitor should be connected between AVDD and AGND. AVDD has a value of +5 V +/- 5%", 46 AGND (power) "Analog Ground", 47 AVDD (power) "Positive power supply for the analog section.  A 0.1 uF capacitor should be connected between AVDD and AGND. AVDD has a value of +5 V +/- 5%"

## AD9831ASTZ-REEL
designator U?
Direct DIgital Synthesizer,Waveform Generator, 10-Bit, Parallel, ST-48, 2000 Reel, Pb-Free; Master fclk: 25MHz; Resolution (Bits): 10bit; Tuning Word Width (bits): 32bit; REFCLK Multiplier: No; Compliance Range (V): 1.5V; FS Iout (mA nom): 4mA; I Supply total (max): 15mA; DatasheetVersion: Rev. B; PackageVersion: 051706-A; PackageReference: ST-48; PackageDescription: 48-Lead Low Profile Quad Flat Package [LQFP]; I/O Interface: Parallel; Code_JEDEC: MS-026-BBC; ComponentLink1Description: Manufacturer URL; ComponentLink1URL: www.analog.com; ComponentLink2Description: Datasheet; ComponentLink2URL: http://www.analog.com/static/imported-files/data_sheets/AD9831.pdf; ComponentLink3Description: Package Specification; ComponentLink3URL: http://www.analog.com/static/imported-files/packages/PKG_PDF/LQFP%28ST%29/ST_48.pdf
footprint ADI-ST-48_N (Thin QFP, 48-Leads, Body 7x7mm, Pitch 0.5mm, IPC Medium Density)
footprint ADI-ST-48_L (Thin QFP, 48-Leads, Body 7x7mm, Pitch 0.5mm, IPC High Density)
footprint ADI-ST-48_M (Thin QFP, 48-Leads, Body 7x7mm, Pitch 0.5mm, IPC Low Density)
part A pins: 2 REFOUT (out) "Voltage Reference Output. The AD9830 has an on-board reference of value 1.21 V nominal.  The reference is made available on the REFOUT pin. [see datasheet]", 3 ~{SLEEP} (in) "Low Power Control, active low digital input.  S\L\E\E\P\ puts the AD9830 into a low power mode.  Internal clocks are disabled and the DAC’s current sources and REFOUT are turned off. [see datasheet]", 7 MCLK (in) "Digital Clock Input. DDS output frequencies are expressed as a binary fraction of the frequency of MCLK.  The output frequency accuracy and phase noise are determined by this clock", 8 ~{WR} (in) "Write, Edge-Triggered Digital Input.  The W\R\ pin is used when writing data to the AD9830.  The data is loaded into the AD9830 on the rising edge of the  WR pulse. [see datasheet]", 10 FSELECT (in) "Frequency Select Input.  FSELECT controls which frequency register, FREQ0 or FREQ1, is used in the phase accumulator.  FSELECT is sampled on the rising MCLK edge. [see datasheet]", 11 PSEL0 (in) "Phase Select Input. The AD9830 has four phase registers.  These registers can be used to alter the value being input to the SIN ROM. [see datasheet]", 12 PSEL1 (in) "Phase Select Input. The AD9830 has four phase registers.  These registers can be used to alter the value being input to the SIN ROM. [see datasheet]", 14 DB15 (in) "Data Bus, Digital Inputs for destination registers", 15 DB14 (in) "Data Bus, Digital Inputs for destination registers", 16 DB13 (in) "Data Bus, Digital Inputs for destination registers", 17 DB12 (in) "Data Bus, Digital Inputs for destination registers", 18 DB11 (in) "Data Bus, Digital Inputs for destination registers", 19 DB10 (in) "Data Bus, Digital Inputs for destination registers", 20 DB9 (in) "Data Bus, Digital Inputs for destination registers", 21 DB8 (in) "Data Bus, Digital Inputs for destination registers", 22 DB7 (in) "Data Bus, Digital Inputs for destination registers", 23 DB6 (in) "Data Bus, Digital Inputs for destination registers", 24 DB5 (in) "Data Bus, Digital Inputs for destination registers", 26 DB4 (in) "Data Bus, Digital Inputs for destination registers", 27 DB3 (in) "Data Bus, Digital Inputs for destination registers", 28 DB2 (in) "Data Bus, Digital Inputs for destination registers", 30 DB1 (in) "Data Bus, Digital Inputs for destination registers", 31 DB0 (in) "Data Bus, Digital Inputs for destination registers", 32 A2 (in) "Address Digital Inputs.  These address bits are used to select the destination register to which the digital data is to be written", 33 A1 (in) "Address Digital Inputs.  These address bits are used to select the destination register to which the digital data is to be written", 34 A0 (in) "Address Digital Inputs.  These address bits are used to select the destination register to which the digital data is to be written", 35 ~{RESET} (in) "Reset, active low digital input. R\E\S\E\T\ resets the phase accumulator to zero which corresponds to an analog output of midscale", 37 NC "No Connect", 39 IOUT (out) "Current Output. This is a high impedance current source.  A load resistor should be connected between I\O\U\T\ and AGND. [see datasheet]", 40 FSADJUST (in) "Full-Scale Adjust Control.  A resistor (RSET) is connected between this pin and AGND. This determines the magnitude of the full-scale DAC current. [see datasheet]", 41 REFIN (power) "Voltage Reference Input. The AD9830 can be used with either the on-board reference, which is available from pin REFOUT, or an external reference. [see datasheet]", 42 COMP "Compensation pin.  This is a compensation pin for the internal reference amplifier.  A 10 nF decoupling ceramic capacitor should be connected between COMP and AVDD", 44 NC "No Connect", 45 NC "No Connect", 48 NC "No Connect"
part B pins: 1 AGND (power) "Analog Ground", 4 DVDD (power) "Positive power supply for the digital section.  A 0.1 uF decoupling capacitor should be connected between DVDD and DGND. DVDD has a value of +5 V +/- 5%", 5 DVDD (power) "Positive power supply for the digital section.  A 0.1 uF decoupling capacitor should be connected between DVDD and DGND. DVDD has a value of +5 V +/- 5%", 6 DGND (power) "Digital Ground", 9 DVDD (power) "Positive power supply for the digital section.  A 0.1 uF decoupling capacitor should be connected between DVDD and DGND. DVDD has a value of +5 V +/- 5%", 13 DGND (power) "Digital Ground", 25 DVDD (power) "Positive power supply for the digital section.  A 0.1 uF decoupling capacitor should be connected between DVDD and DGND. DVDD has a value of +5 V +/- 5%", 29 DGND (power) "Digital Ground", 36 AGND (power) "Analog Ground", 38 AVDD (power) "Positive power supply for the analog section.  A 0.1 uF capacitor should be connected between AVDD and AGND. AVDD has a value of +5 V +/- 5%", 43 AVDD (power) "Positive power supply for the analog section.  A 0.1 uF capacitor should be connected between AVDD and AGND. AVDD has a value of +5 V +/- 5%", 46 AGND (power) "Analog Ground", 47 AVDD (power) "Positive power supply for the analog section.  A 0.1 uF capacitor should be connected between AVDD and AGND. AVDD has a value of +5 V +/- 5%"